# EAGLE library part SUREDSP (library SureDSP)
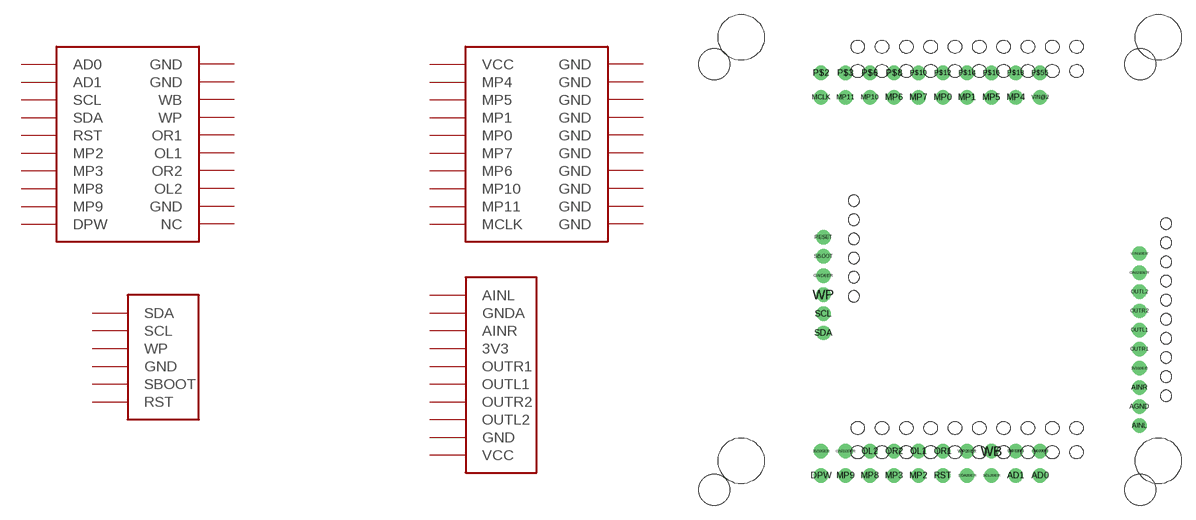
[diagram p8: symbol with the pads of SUREDSP; footprint SUREDSP]

Designator prefix IC; gates G$1=SUREDSPIO1 G$2=SUREDSPIO2 G$3=SUREDSPIO3 G$4=SUREDSPIO4

## SUREDSP  [SUREDSP]
3V310ER  G$4:3V3
3V320ER  G$1:NC
AD0  G$1:AD0
AD1  G$1:AD1
AGND  G$4:GNDA
AINL  G$4:AINL
AINR  G$4:AINR
DPW  G$1:DPW
GND6ER  G$3:GND
GND10ER  G$4:GND
GND20ER  G$1:GND
GND20ER1  G$1:GND
GND20ER2  G$1:GND
MCLK  G$2:MCLK
MP0  G$2:MP0
MP1  G$2:MP1
MP2  G$1:MP2
MP3  G$1:MP3
MP4  G$2:MP4
MP5  G$2:MP5
MP6  G$2:MP6
MP7  G$2:MP7
MP8  G$1:MP8
MP9  G$1:MP9
MP10  G$2:MP10
MP11  G$2:MP11
OL1  G$1:OL1
OL2  G$1:OL2
OR1  G$1:OR1
OR2  G$1:OR2
OUTL1  G$4:OUTL1
OUTL2  G$4:OUTL2
OUTR1  G$4:OUTR1
OUTR2  G$4:OUTR2
P$2  G$2:GND
P$3  G$2:GND
P$6  G$2:GND
P$8  G$2:GND
P$10  G$2:GND
P$12  G$2:GND
P$14  G$2:GND
P$16  G$2:GND
P$18  G$2:GND
P$55  G$2:GND
RESET  G$3:RST
RST  G$1:RST
SBOOT  G$3:SBOOT
SCL  G$3:SCL
SCL20ER  G$1:SCL
SDA  G$3:SDA
SDA20ER  G$1:SDA
VIN10ER  G$4:VCC
VIN@2  G$2:VCC
WB  G$1:WB
WP  G$3:WP
WP20ER  G$1:WP

## Footprint SUREDSP (pad centres in mm)
drill 1 pad 1.4: 3V310ER 44.4,12.7; 3V320ER 11.175,4.04; AD0 34.035,1.5; AD1 31.495,1.5; AGND 44.4,8.7; AINL 44.4,6.7; AINR 44.4,10.7; DPW 11.175,1.5; GND6ER 11.4,22.4; GND10ER 44.4,22.7; GND20ER 13.715,4.04; GND20ER1 31.495,4.04; GND20ER2 34.035,4.04; MCLK 11.175,41.04; MP0 23.875,41.04; MP1 26.415,41.04; MP2 21.335,1.5; MP3 18.795,1.5; MP4 31.495,41.04; MP5 28.955,41.04; MP6 18.795,41.04; MP7 21.335,41.04; MP8 16.255,1.5; MP9 13.715,1.5; MP10 16.255,41.04; MP11 13.715,41.04; OL1 21.335,4.04; OL2 16.255,4.04; OR1 23.875,4.04; OR2 18.795,4.04; OUTL1 44.4,16.7; OUTL2 44.4,20.7; OUTR1 44.4,14.7; OUTR2 44.4,18.7; P$2 11.175,43.58; P$3 13.715,43.58; P$6 16.255,43.58; P$8 18.795,43.58; P$10 21.335,43.58; P$12 23.875,43.58; P$14 26.415,43.58; P$16 28.955,43.58; P$18 31.495,43.58; P$55 34.035,43.58; RESET 11.4,26.4; RST 23.875,1.5; SBOOT 11.4,24.4; SCL 11.4,18.4; SCL20ER 28.955,1.5; SDA 11.4,16.4; SDA20ER 26.415,1.5; VIN10ER 44.4,24.7; VIN@2 34.035,41.04; WB 28.955,4.04; WP 11.4,20.4; WP20ER 26.415,4.04
hole 3.2 at 0,44.5
hole 3.2 at 44.5,44.5
hole 3.2 at 44.5,0
hole 3.2 at 0,-0.002